# EAGLE library part WE-LLCR_ETD44 (library Wurth_Power Magnetics_WE-LLCR)
WE-LLCR Resonant Converter Characteristics Transformer for high efficiency power supply Input voltage 360–400 VDC Switching frequency 70–120 kHz Output power 150 W–250 W Testing voltage 4 kVAC Litz wire for low eddy current losses Defined leakage inductance for use without additional resonant inductor Applications Power supplies for PC, netbook, LED lighting and other power supplies High efficient resonant converters The "Value"shown for the Symbol and Packaging is Output Voltage1 Output Current1 <https://katalog.we-online.com/media/images/v2/o14804v209%20Family_WE-LLCR.jpg> Details see: https://katalog.we-online.com/en/pbs/WE-LLCR Updated by Yingchun,Shan 2019-08-27 2019(C) Wurth Elektronik
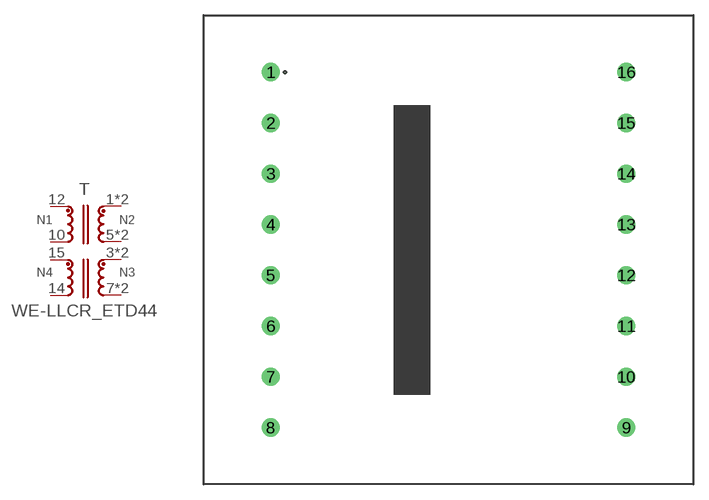
[diagram p1: symbol with the pads of WE-LLCR_ETD44; footprint WE-LLCR_ETD44]

Designator prefix T

## WE-LLCR_ETD44_760895731 (DATASHEET-URL: https://katalog.we-online.com/pbs/datasheet/760895731.pdf; FSWITCH: 70-120kHz; ISAT: 5A; L: 475uH; LSMIN: 100uH; N: 35:2:2:3; PART-NUMBER: 760895731; RDC1: 128mOhm; RDC2: 4mOhm; RDC3: 4mOhm; RDC4: 192mOhm; VALUE: 12V 20.8A; VAUX: 18V; VI: 360-400V(DC)), WE-LLCR_ETD44_760895741 (DATASHEET-URL: https://katalog.we-online.com/pbs/datasheet/760895741.pdf; FSWITCH: 70-120kHz; ISAT: 4.3A; L: 400uH; LSMIN: 65uH; N: 27:3:3:2; PART-NUMBER: 760895741; RDC1: 75mOhm; RDC2: 4.5mOhm; RDC3: 4.5mOhm; RDC4: 150mOhm; VALUE: 24V 10.4A; VAUX: 16V; VI: 360-400V(DC)), WE-LLCR_ETD44_760895751 (DATASHEET-URL: https://katalog.we-online.com/pbs/datasheet/760895751.pdf; FSWITCH: 70-120kHz; ISAT: 4.3A; L: 400uH; LSMIN: 65uH; N: 27:6:6:2; PART-NUMBER: 760895751; RDC1: 75mOhm; RDC2: 12.2mOhm; RDC3: 12.2mOhm; RDC4: 150mOhm; VALUE: 48V 5.2A; VAUX: 16V; VI: 360-400V(DC))  [WE-LLCR_ETD44]
1  8  pas
2  8  pas
3  6  pas
4  6  pas
5  7  pas
6  7  pas
7  5  pas
8  5  pas
10  2  pas
12  1  pas
14  4  pas
15  3  pas

## Footprint WE-LLCR_ETD44 (pad centres in mm)
WE-LLCR Resonant Converter Size ETD44 THT12 Pin
drill 1.2: 1 -17.5,17.5; 2 -17.5,12.5; 3 -17.5,7.5; 4 -17.5,2.5; 5 -17.5,-2.5; 6 -17.5,-7.5; 7 -17.5,-12.5; 8 -17.5,-17.5; 9 17.5,-17.5; 10 17.5,-12.5; 11 17.5,-7.5; 12 17.5,-2.5; 13 17.5,2.5; 14 17.5,7.5; 15 17.5,12.5; 16 17.5,17.5